# Altium footprint library C&K_Slide_Switch_DPDT_SMT.PcbLib: 1 footprints
Each footprint in its own frame and in the unit in brackets; x right, y up, seen from the top. Pads: shape width x height; smd on the part's side, far side on the other; paste and mask are expansions set on the pad; w line width, h text height; cw(c..) or ccw(c..) is an arc to the next point about the centre after c.
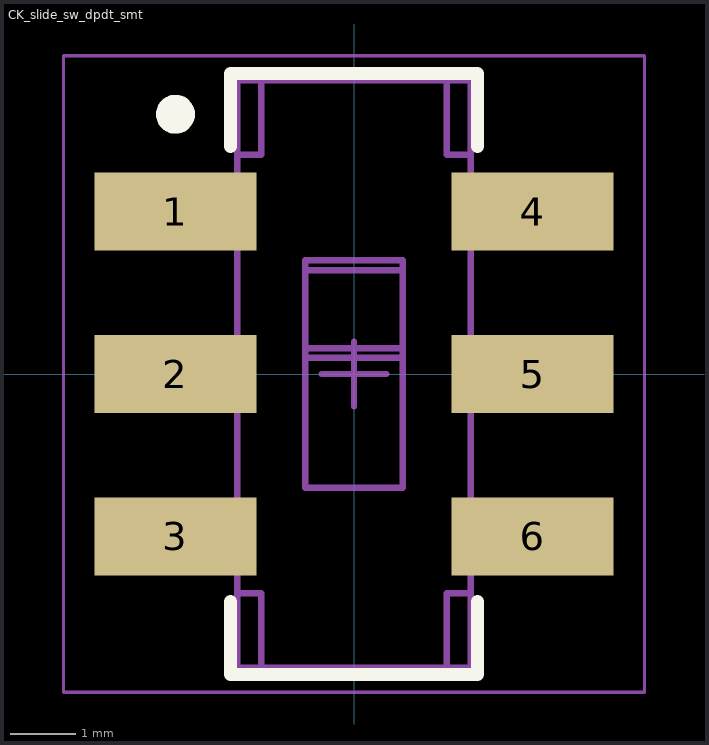
[diagram p0: the footprint, top view; thin cyan lines are the x and y axes]

## CK_slide_sw_dpdt_smt [mm] "SWITCH SLIDE DPDT 300MA 6V"
height 5.5
pads (6):
  rect 2.5x1.2 smd: 1(-2.75,2.5) 2(-2.75,0) 3(-2.75,-2.5) 4(2.75,2.5) 5(2.75,0) 6(2.75,-2.5)
Top Overlay:
  circle w0.3: c-2.75,4 r0.15
  lines w0.2: -1.9,-3.5 -1.9,-4.625 1.9,-4.625 1.9,-3.5 ; -1.9,3.5 -1.9,4.625 1.9,4.625 1.9,3.5
Mechanical 13:
  lines w0.1: -1.8,-3.375 -1.425,-3.375 -1.425,-4.525 ; -1.8,-2.8 -3.75,-2.8 -3.75,-2.2 -1.8,-2.2 ; -1.8,-0.3 -3.75,-0.3 -3.75,0.3 -1.8,0.3 ; -1.8,2.2 -3.75,2.2 -3.75,2.8 -1.8,2.8 ; -1.8,3.375 -1.425,3.375 -1.425,4.525 ; -0.75,0.25 0.75,0.25 ; -0.75,0.4 0.75,0.4 ; -0.75,1.6 0.75,1.6 ; 1.425,-4.525 1.425,-3.375 1.8,-3.375 ; 1.425,4.525 1.425,3.375 1.8,3.375 ; 1.8,-2.775 3.75,-2.775 3.75,-2.175 1.8,-2.175 ; 1.8,-0.3 3.75,-0.3 3.75,0.3 1.8,0.3 ; 1.8,2.2 3.75,2.2 3.75,2.8 1.8,2.8 ; -1.8,-4.525 -1.8,4.525 1.8,4.525 1.8,-4.525 -1.8,-4.525 ; -0.75,-1.75 0.75,-1.75 0.75,1.75 -0.75,1.75 -0.75,-1.75
  text "C&K" at -0.3,-2.475 h0.6
Mechanical 15:
  lines w0.05: -4.475,-4.9 4.475,-4.9 4.475,4.9 -4.475,4.9 -4.475,-4.9
  lines w0.1: -0.5,0 0.5,0 ; 0,-0.5 0,0.5
3D body "User Library-smd_slide_switch.STEP": height 5.45, standoff 0, extent -3.325,-4.525 3.575,4.525